# Altium schematic symbol library B2B-XH-A(LF)(SN).Schlib: 1 symbol
Pins are listed as number, name and electrical type; pins without a type are passive.

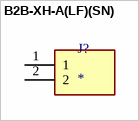
[diagram p0: symbol B2B-XH-A(LF)(SN)]

## B2B-XH-A(LF)(SN)
designator J?
Connector Header Through Hole 2 position 0.098 _2.50mm_ / JST XH
pins: 1, 2